# EAGLE library part 87340-06_S (library con-molex-milli-grid)
RECEPTACAL
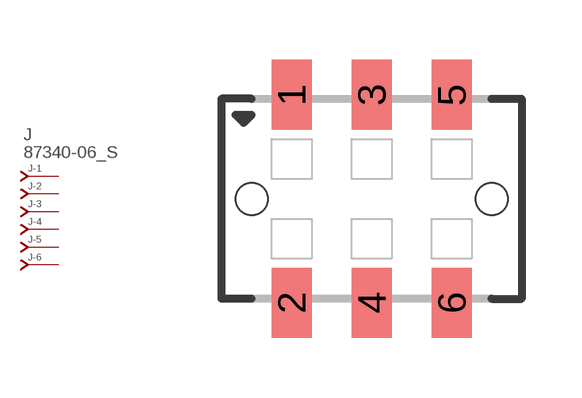
[diagram p327: symbol with the pads of 87340-06; footprint 87340-06]

Designator prefix J; gates -1=J-NV -2=J-N -3=J-N -4=J-N -5=J-N -6=J-N

## 87340-06_S  [87340-06]
1  -1:J  pas
2  -2:J  pas
3  -3:J  pas
4  -4:J  pas
5  -5:J  pas
6  -6:J  pas

## Footprint 87340-06 (pad centres in mm)
RECEPTACAL SMD Dual Row, Vertical, Low Profile
smd 1 x 1.75: 1 -2,2.6; 2 -2,-2.6; 3 0,2.6; 4 0,-2.6; 5 2,2.6; 6 2,-2.6
hole 0.8 at -3,0
hole 0.8 at 3,0